# Altium schematic symbol library UCC28221D.SchLib: 1 symbol
Pins are listed as number, name and electrical type; pins without a type are passive.

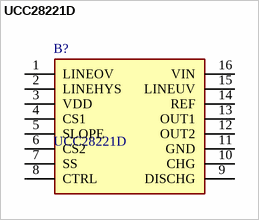
[diagram p0: symbol UCC28221D]

## UCC28221D
designator B?
Dual Interleaved PWM Controller with Programmable Max Duty Cycle; Manufacturer_Name: Texas Instruments; Geometry.Height: 1.75mm; Mouser Part Number: 595-UCC28221D; Mouser Price/Stock: https://www.mouser.co.uk/ProductDetail/Texas-Instruments/UCC28221D/?qs=eJkN62t4xTWVlcTfMjdgEA%3D%3D; Manufacturer_Part_Number: UCC28221D; Datasheet Link: http://www.ti.com/lit/gpn/ucc28221
footprint SOIC127P600X175-16N
pins: 1 LINEOV, 2 LINEHYS, 3 VDD, 4 CS1, 5 SLOPE, 6 CS2, 7 SS, 8 CTRL, 9 DISCHG, 10 CHG, 11 GND, 12 OUT2, 13 OUT1, 14 REF, 15 LINEUV, 16 VIN